# Altium footprint library 2.4G antenna PCB  封装.PcbLib: 2 footprints
Each footprint in its own frame and in the unit in brackets; x right, y up, seen from the top. Pads: shape width x height; smd on the part's side, far side on the other; paste and mask are expansions set on the pad; w line width, h text height; cw(c..) or ccw(c..) is an arc to the next point about the centre after c.
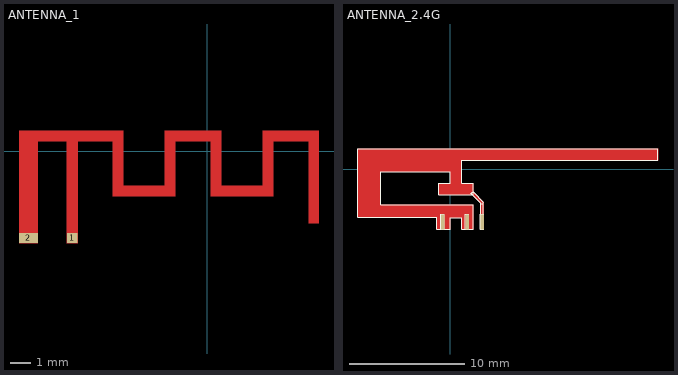
[diagram p0: the footprints below, top view; thin cyan lines are the x and y axes]

## ANTENNA_1 [mm]
pads (2):
  rect 0.5x0.5 smd paste-0.237: 1(-6.483,-4.166)
  rect 0.9x0.5 smd paste-0.437 mask-0.437: 2(-8.583,-4.166)
Top Layer:
  region: -9.033,-4.416 -9.033,0.983 -4.033,0.983 -4.033,-1.653 -2.031,-1.653 -2.031,0.983 0.665,0.983 0.665,-1.658 2.669,-1.658 2.669,0.982 5.367,0.982 5.367,-3.453 4.868,-3.453 4.868,0.474 3.175,0.474 3.175,-2.155 0.16,-2.155 0.16,0.481 -1.529,0.481 -1.529,-2.158 -4.533,-2.158 -4.533,0.481 -6.223,0.481 -6.223,-4.416 -6.733,-4.416 -6.733,0.483 -8.128,0.483 -8.128,-4.416
  region: -2.033,0.484 0.667,0.484 0.667,0.984 -2.033,0.984
  region: -9.033,0.484 -4.033,0.484 -4.033,0.984 -9.033,0.984
  region: 2.667,0.484 5.367,0.484 5.367,0.984 2.667,0.984
  region: -4.533,-2.156 -4.033,-2.156 -4.033,0.51 -4.533,0.51
  region: -4.033,-2.156 -2.033,-2.156 -2.033,-1.651 -4.033,-1.651
  region: -2.033,-2.156 -1.533,-2.156 -1.533,0.51 -2.033,0.51
  region: 2.667,-2.156 3.167,-2.156 3.167,0.51 2.667,0.51
  region: 0.667,-2.156 2.667,-2.156 2.667,-1.651 0.667,-1.651
  region: 0.167,-2.156 0.667,-2.156 0.667,0.51 0.167,0.51
  region: 4.867,-3.456 5.367,-3.456 5.367,0.51 4.867,0.51
  region: -6.733,-4.416 -6.233,-4.416 -6.233,0.51 -6.733,0.51
  region: -9.033,-4.416 -8.133,-4.416 -8.133,0.51 -9.033,0.51

## ANTENNA_2.4G [mm]
pads (3):
  rect 0.3x1.3 smd: 1(2.743,-4.572) 2(1.448,-4.572) 3(-0.66,-4.572)
Top Layer:
  region: 1.79,-2.143 2.581,-2.934 2.607,-3.002 2.61,-3.013 2.61,-5.227 2.876,-5.227 2.876,-2.869 1.97,-1.963
  region: -0.02,-5.22 -1.171,-5.22 -1.171,-4.16 -8.003,-4.16 -8.003,1.777 17.978,1.777 17.978,0.777 0.978,0.777 0.978,-1.219 1.977,-1.219 1.977,-2.219 -1.022,-2.219 -1.022,-1.224 -0.023,-1.224 -0.023,-0.224 -6.022,-0.224 -6.022,-3.089 1.976,-3.089 1.976,-5.223 0.979,-5.223 0.979,-4.224 -0.02,-4.224
Top Overlay:
  lines w0.025: -8.005,-4.156 -8.005,1.777 17.977,1.777 17.977,0.777 0.977,0.777 0.977,-1.223 1.977,-1.223 1.977,-2.223 -1.023,-2.223 -1.023,-1.223 -0.023,-1.223 -0.023,-0.223 -6.023,-0.223 -6.023,-3.089 1.977,-3.089 1.977,-5.223 0.977,-5.223 0.977,-4.223 -0.023,-4.223 -0.023,-5.223 -1.172,-5.223 -1.172,-4.156 -8.005,-4.156 ; -0.816,-5.213 -0.516,-5.213 -0.516,-3.913 -0.816,-3.913 -0.816,-5.213 ; 1.292,-5.213 1.592,-5.213 1.592,-3.913 1.292,-3.913 1.292,-5.213 ; 1.747,-2.099 1.975,-1.972 2.864,-2.861 2.864,-3.013 2.61,-3.013 2.585,-2.937 1.747,-2.099 ; 2.587,-5.213 2.887,-5.213 2.887,-3.913 2.587,-3.913 2.587,-5.213 ; 2.61,-5.223 2.61,-3 2.864,-3 2.864,-5.223 2.61,-5.223